# Altium footprint library CAPAE8983X100L.PcbLib: 1 footprints
Each footprint in its own frame and in the unit in brackets; x right, y up, seen from the top. Pads: shape width x height; smd on the part's side, far side on the other; paste and mask are expansions set on the pad; w line width, h text height; cw(c..) or ccw(c..) is an arc to the next point about the centre after c.
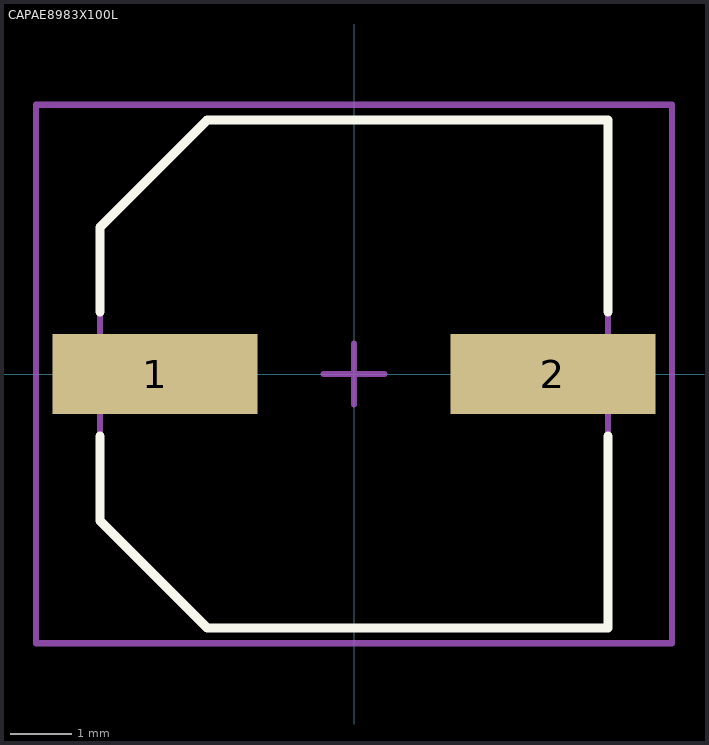
[diagram p0: the footprint, top view; thin cyan lines are the x and y axes]

## CAPAE8983X100L [mm] "Aluminum Electrolytic Capacitor, Body 8.30x8.30x10.00mm, IPC High Density"
height 10
pads (2):
  rect 3.35x1.3 smd: 1(-3.25,0) 2(3.25,0)
Top Overlay:
  lines w0.152: -4.15,-1.016 -4.15,-2.4 -2.4,-4.15 4.15,-4.15 4.15,-1.016 ; -4.15,1.016 -4.15,2.4 -2.4,4.15 4.15,4.15 4.15,1.016
Mechanical 13:
  lines w0.1: -4.15,-2.4 -2.4,-4.15 4.15,-4.15 4.15,4.15 -2.4,4.15 -4.15,2.4 -4.15,-2.4
Mechanical 15:
  lines w0.1: -0.5,0 0.5,0 ; 0,-0.5 0,0.5 ; -5.2,-4.4 -5.2,4.4 5.2,4.4 5.2,-4.4 -5.2,-4.4
3D body: height 10, standoff 0, extent -4.45,-4.15 4.45,4.15